# Altium footprint library ST1S.PcbLib: 1 footprints
Each footprint in its own frame and in the unit in brackets; x right, y up, seen from the top. Pads: shape width x height; smd on the part's side, far side on the other; paste and mask are expansions set on the pad; w line width, h text height; cw(c..) or ccw(c..) is an arc to the next point about the centre after c.
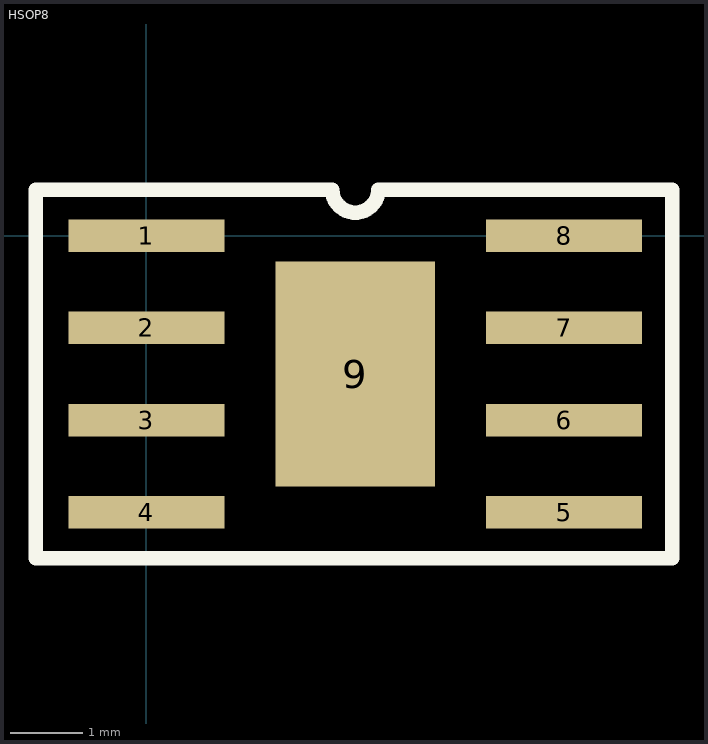
[diagram p0: the footprint, top view; thin cyan lines are the x and y axes]

## HSOP8 [mm]
pads (9):
  rect 2.15x0.45 smd: 1(0,0) 2(0,-1.27) 3(0,-2.54) 4(0,-3.81) 5(5.75,-3.81) 6(5.75,-2.54) 7(5.75,-1.27) 8(5.75,0)
  rect 2.2x3.1 smd: 9(2.875,-1.905)
Top Overlay:
  lines w0.2: -1.524,-4.445 7.239,-4.445 7.239,0.635 3.193,0.635 cw(c2.875,0.635) 2.558,0.635 -1.524,0.635 -1.524,-4.445
3D body: height 0.4, standoff 0, extent 4.647,-0.254 6.09,0.254
3D body: height 0.4, standoff 0, extent 4.647,-1.524 6.09,-1.016
3D body: height 0.4, standoff 0, extent 4.647,-2.794 6.09,-2.286
3D body: height 0.4, standoff 0, extent 4.647,-4.064 6.09,-3.556
3D body: height 0.4, standoff 0, extent -0.34,-4.064 1.103,-3.556
3D body: height 0.4, standoff 0, extent -0.34,-2.794 1.103,-2.286
3D body: height 0.4, standoff 0, extent -0.34,-1.524 1.103,-1.016
3D body: height 0.4, standoff 0, extent -0.34,-0.254 1.103,0.254
3D body: height 1.5, standoff 0, extent 1.016,-4.137 4.699,0.327